# Altium schematic symbol library Inductor.SchLib: 4 symbols
Pins are listed as number, name and electrical type; pins without a type are passive.

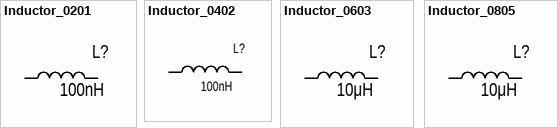
[diagram p0: symbols Inductor_0201 to Inductor_0805]

## Inductor_0201
designator L?  value 100nH
ValueManufacturerPartNumber: Inductor, 100nH, ±10%, 0201; TypeInductor: Inductor; Tolerance: ±10%; Manufacturer: *; Mfr.Part: *; HelpURL: *; Package: 0201
footprint IND: 0201
pins: 1, 2

## Inductor_0402
designator L?  value 100nH
ValueManufacturerPartNumber: Inductor, 100nH, ±10%, 0402; Tolerance: ±10%; TypeInductor: Inductor; Mfr.Part: *; Manufacturer: *; Package: 0402; HelpURL: *
footprint IND: 0402
pins: 1, 2

## Inductor_0603
designator L?  value 10μH
ValueManufacturerPartNumber: Inductor, 10μH, ±10%, 0603; Tolerance: ±10%; TypeInductor: Inductor; Manufacturer: *; Mfr.Part: *; Package: 0603; HelpURL: *
footprint IND: 0603
pins: 1, 2

## Inductor_0805
designator L?  value 10μH
ValueManufacturerPartNumber: Inductor, 10μH, ±10%, 0805; Tolerance: ±10%; TypeInductor: Inductor; Manufacturer: *; Mfr.Part: *; Package: 0805; HelpURL: *
footprint IND: 0805
pins: 1, 2